# Altium schematic symbol library RB141C1100.SchLib: 1 symbol
Pins are listed as number, name and electrical type; pins without a type are passive.

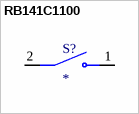
[diagram p0: symbol RB141C1100]

## RB141C1100
designator S?
Swicth SPST RB141C1100; MF: {'manufacturer': u'e-switch inc'}; Package: None; MP: RB141C1100; Value: *; Availability: Unavailable; Price: None
footprint SW_RB141C1100
pins: 1, 2